# Altium integrated library AP7217A.IntLib: 1 symbol
Pins are listed as number, name and electrical type; pins without a type are passive.

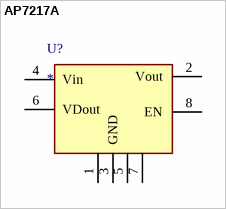
[diagram p0: symbol AP7217A]

## AP7217A
designator U?
ComponentLink1Description: datasheet; ComponentLink1URL: https://www.diodes.com/assets/Datasheets/AP7217A.pdf; ComponentLink2Description: link; ComponentLink2URL: https://www.mouser.es/ProductDetail/Diodes-Incorporated/AP7217A-33SG-13?qs=sGAEpiMZZMuLLNXTG1MZamXGyQEfUtWpm%252B4NQ%252BNxH8w%3D
footprint AP7217A (dim:5.9x4.85. Package: SOP-8L-EP)
pins: 1 GND, 2 Vout, 3 GND, 4 Vin, 5 GND, 6 VDout, 7 GND, 8 EN